# Altium schematic symbol library BibliotecaASR1000.SchLib: 3 symbols
Pins are listed as number, name and electrical type; pins without a type are passive.

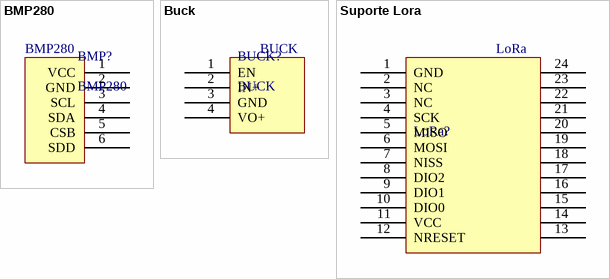
[diagram p0: symbols BMP280 to Suporte Lora]

## BMP280
designator BMP?
BMP280 usado no projeto ASR1000.
footprint BMP280 (BMP280 usado no projeto ASR1000.)
pins: 1 VCC, 2 GND, 3 SCL, 4 SDA, 5 CSB, 6 SDD

## Buck
designator BUCK?, comment BUCK
Buck usado no projeto ASR1000.
footprint BUCK (Buck usado no projeto ASR1000.)
pins: 1 EN, 2 IN+, 3 GND, 4 VO+

## Suporte Lora
designator LoRa?, comment Modulo LoRa  (value not drawn)
LoRa usado no projeto ASR1000.
footprint Suporte_Lora (Suporte do LoRa para o projeto ASR1000.)
pins: 1 GND, 2 NC, 3 NC, 4 SCK, 5 MISO, 6 MOSI, 7 NISS, 8 DIO2, 9 DIO1, 10 DIO0, 11 VCC, 12 NRESET, 13, 14, 15, 16, 17, 18, 19, 20, 21, 22, 23, 24
text: LoRa